# Altium schematic symbol library XC3S200AN-FTG256.SchLib: 1 symbol
Pins are listed as number, name and electrical type; pins without a type are passive.

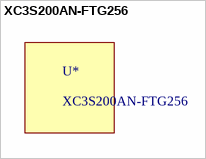
[diagram p0: symbol XC3S200AN-FTG256]

## XC3S200AN-FTG256
designator U*
footprint Spartan-3AN FTG256 Fine-Pitch Thin BGA Package (BGA, 256-Leads, Body 17,00x17,00mmx1,55mm, Pitch 1,00mm)